# Altium schematic symbol library Library.SchLib: 5 symbols
Pins are listed as number, name and electrical type; pins without a type are passive.

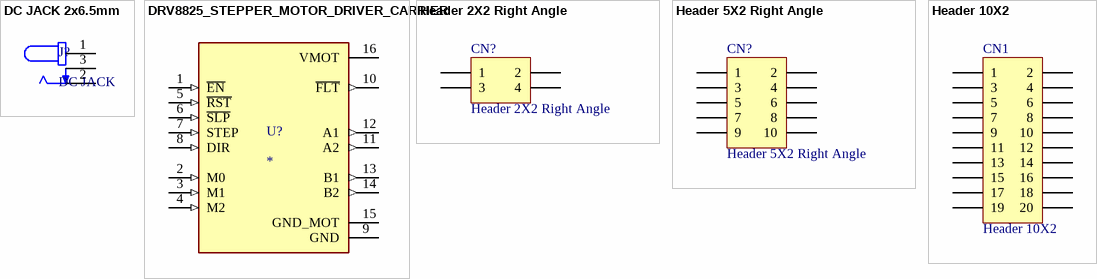
[diagram p0: symbols DC JACK 2x6.5mm to Header 10X2]

## DC JACK 2x6.5mm
designator J?, comment DC JACK
2.0 x 6.5 mm, 5.0 A, Horizontal, Through Hole, Dc Power Jack Connector; MF: CUI Devices; MP: PJ-002AH; Purchase-URL: https://pricing.snapeda.com/search/part/PJ-002AH/?ref=eda; Check_prices: https://www.snapeda.com/parts/PJ-002AH/CUI+Devices/view-part/?ref=eda; Value: *; Package: None; Price: None; Availability: In Stock; CUI_purchase_URL: https://www.cuidevices.com/product/interconnect/connectors/dc-power-connectors/jacks/pj-002ah?utm_source=snapeda.com&utm_medium=referral&utm_campaign=snapedaBOM; SnapEDA_Link: https://www.snapeda.com/parts/PJ-002AH/CUI+Devices/view-part/?ref=snap
footprint DC JACK 2x6.5
pins: 1, 2, 3

## DRV8825_STEPPER_MOTOR_DRIVER_CARRIER
designator U?
Stepper motor controler; IC: DRV8825; 1.5A; Uin mot: 8.2Ã·45V; MP: DRV8825_STEPPER_MOTOR_DRIVER_CARRIER; Availability: Unavailable; Value: *; Price: None; Package: None
footprint IC_DRV8825_STEPPER_MOTOR_DRIVER_CARRIER
pins: 1 ~{EN} (in), 2 M0 (in), 3 M1 (in), 4 M2 (in), 5 ~{RST} (in), 6 ~{SLP} (in), 7 STEP (in), 8 DIR (in), 9 GND (power), 10 ~{FLT} (out), 11 A2 (out), 12 A1 (out), 13 B1 (out), 14 B2 (out), 15 GND_MOT (power), 16 VMOT (power)

## Header 2X2 Right Angle
designator CN?
Header, 2-Pin, Dual row, Right Angle; LatestRevisionDate: 17-Jul-2002; LatestRevisionNote: Re-released for DXP Platform.; Publisher: Altium Limited
footprint Header 2x2 Right Angle
pins: 1, 2, 3, 4

## Header 5X2 Right Angle
designator CN?
Header, 5-Pin, Dual row, Right Angle; LatestRevisionDate: 17-Jul-2002; LatestRevisionNote: Re-released for DXP Platform.; Publisher: Altium Limited
footprint Header 5x2 Right Angle
pins: 1, 2, 3, 4, 5, 6, 7, 8, 9, 10

## Header 10X2
designator CN1
Header, 10-Pin, Dual row; LatestRevisionDate: 17-Jul-2002; LatestRevisionNote: Re-released for DXP Platform.; Publisher: Altium Limited
footprint Header 10x2
pins: 1, 2, 3, 4, 5, 6, 7, 8, 9, 10, 11, 12, 13, 14, 15, 16, 17, 18, 19, 20